# Altium footprint library Passive.PcbLib: 30 footprints (part 1 of 2)
Each footprint in its own frame and in the unit in brackets; x right, y up, seen from the top. Pads: shape width x height; smd on the part's side, far side on the other; paste and mask are expansions set on the pad; w line width, h text height; cw(c..) or ccw(c..) is an arc to the next point about the centre after c.
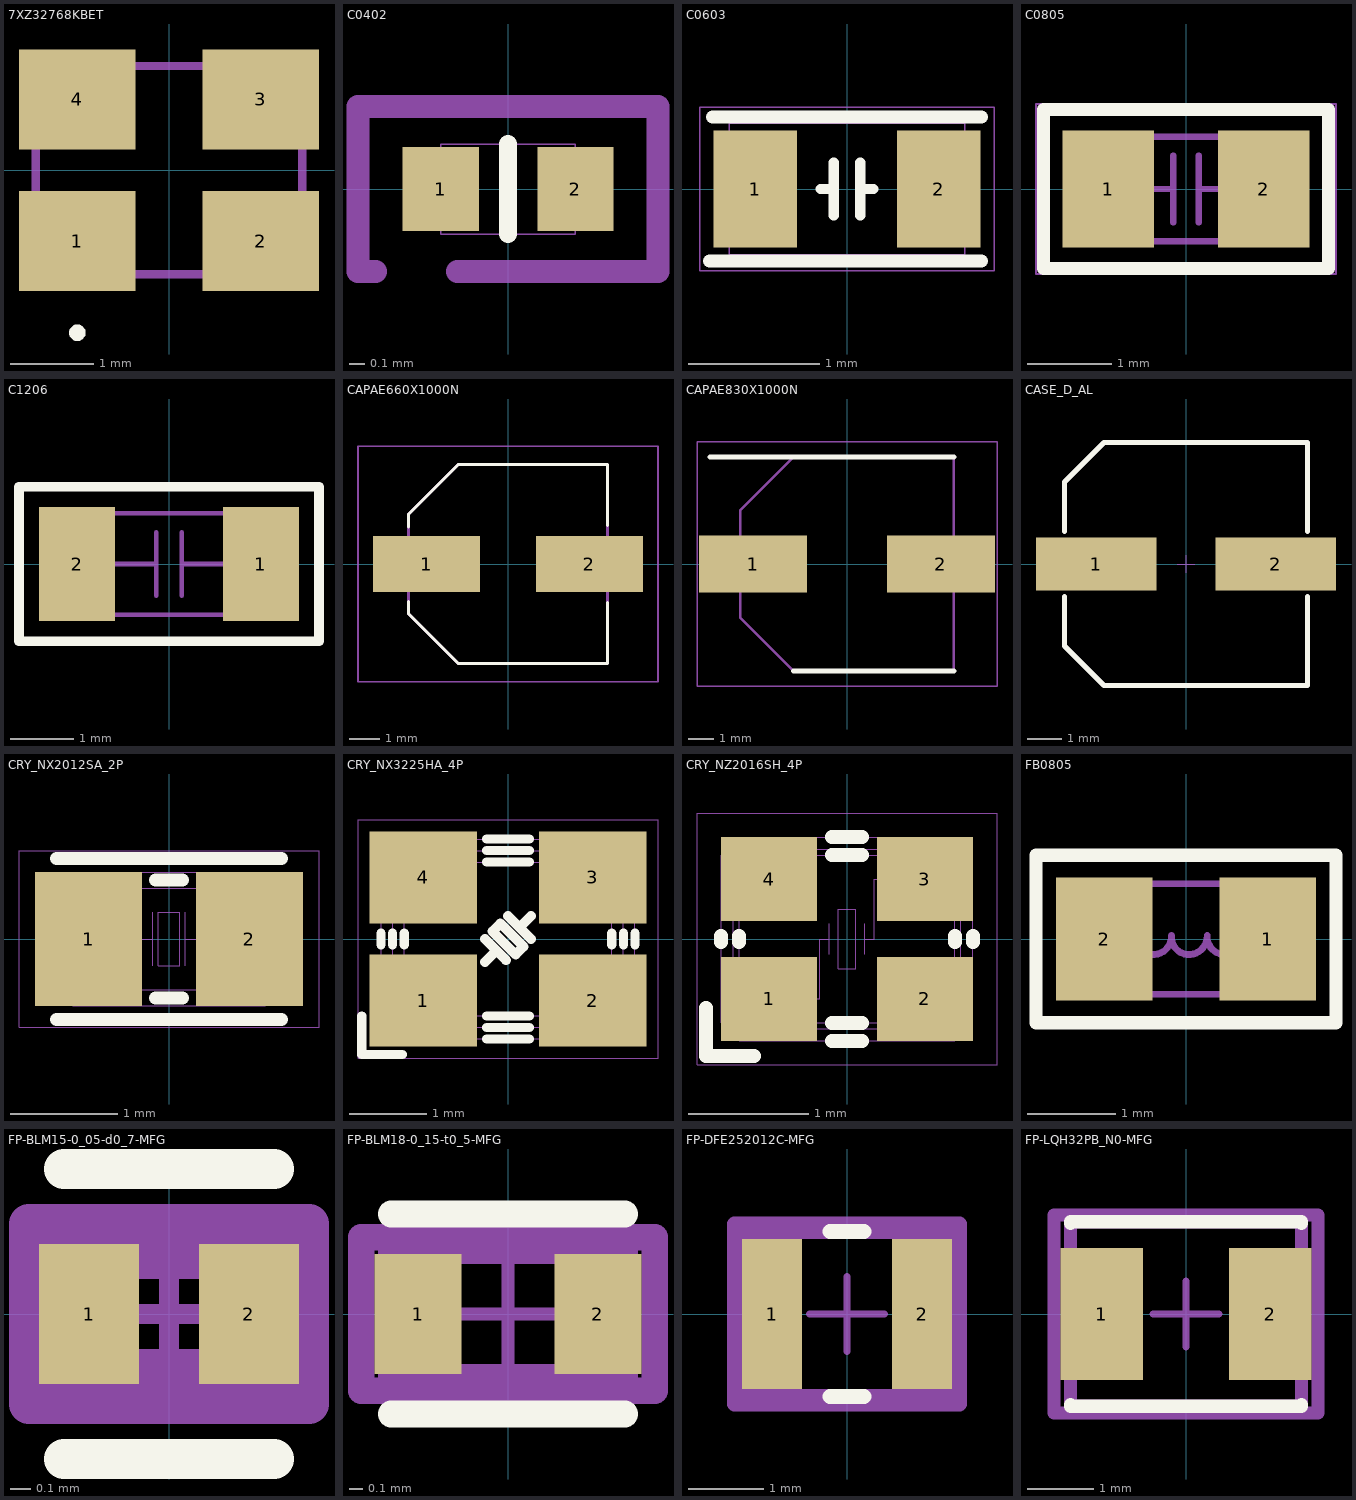
[diagram p0: the footprints below, top view; thin cyan lines are the x and y axes]

## 7XZ32768KBET [mm]
pads (4):
  rect 1.4x1.2 smd: 1(-1.1,-0.85) 2(1.1,-0.85) 3(1.1,0.85) 4(-1.1,0.85)
Top Overlay:
  lines w0.1: -1.1,-2 cw(c-1.1,-1.95) -1.1,-1.9 cw(c-1.1,-1.95) -1.1,-2
Mechanical 13:
  lines w0.1: -1.6,-1.25 -1.6,1.25 1.6,1.25 1.6,-1.25 -1.6,-1.25
3D body "7XZ-32.768KBE-T.stp": height 1.2, standoff 0, extent -1.68,-1.33 1.68,1.33

## C0402 [mm]
pads (2):
  rect 0.51x0.56 smd mask+0.05: 1(-0.45,0) 2(0.45,0)
Top Overlay:
  lines w0.12: 0,-0.3 0,0.3
  text ".Designator" at 3.247,-0.722 h0.64
Mechanical 14:
  lines w0.01: -0.45,-0.3 -0.45,0.3 0.45,0.3 0.45,-0.3 -0.45,-0.3
Mechanical 32:
  text "1" at -0.216,0 h0.64
  text "2" at 0.724,0 h0.64
Mechanical 33:
  lines w0.152: -0.882,-0.55 -1,-0.55 -1,0.55 1,0.55 1,-0.55 -0.337,-0.55
  text "C633" at 3.247,-0.722 h0.64
3D body: height 0.4, standoff 0, extent -0.455,-0.305 0.455,0.305
3D body "C0402.STEP": height 0.36, standoff 0, extent -0.5,-0.265 0.5,0.265

## C0603 [mm]
pads (2):
  rect 0.64x0.89 smd mask+0.05: 1(-0.7,0) 2(0.7,0)
Top Overlay:
  lines w0.08: -0.2,0 -0.1,0 ; -0.1,-0.2 -0.1,0.2 ; 0.1,-0.2 0.1,0.2 ; 0.1,0 0.2,0
  lines w0.1: -1.05,-0.55 1.025,-0.55 ; -1.025,0.55 1.025,0.55
Mechanical 14:
  lines w0.01: -0.9,-0.5 -0.9,0.5 0.9,0.5 0.9,-0.5 -0.9,-0.5
  text "'.Designator'" at 0.5,-2 h0.75
Mechanical 16:
  lines w0.01: -1.125,-0.625 1.125,-0.625 1.125,0.625 -1.125,0.625 -1.125,-0.625
3D body "C0603.STEP": height 0.5, standoff 0, extent -0.8,-0.4 0.8,0.4
3D body: height 1.4, standoff 0, extent -0.899,-0.499 0.899,0.499

## C0805 [mil]
pads (2):
  rect 43x55 smd: 1(-36.5,0) 2(36.5,0)
Top Overlay:
  lines w6: -66.93,-37.4 66.93,-37.4 66.93,37.4 -11.81,37.4 -66.93,37.4 -66.93,-37.4
  text ".Designator" at -31.44,-75.5 h25
Top Courtyard:
  lines w1: -39.37,-24.61 39.37,-24.61 39.37,24.61 -39.37,24.61 -39.37,-24.61
Top 3D Body:
  lines w1: -70.5,-40 70.5,-40 70.5,40 -70.5,40 -70.5,-40
Mechanical 32:
  text "1" at -46.5,0 h25
  text "2" at 26.5,0 h25
Mechanical 33:
  lines w6: -66.93,-37.4 66.93,-37.4 66.93,37.4 -11.81,37.4 -66.93,37.4 -66.93,-37.4
  text "C40" at 73.5,-7.17 h25
Top Assembly:
  lines w3: -33.46,0 -5.91,0 ; -5.91,-15.75 -5.91,0 ; -5.91,15.75 -5.91,0 ; 5.91,-15.75 5.91,0 ; 5.91,15.75 5.91,0 ; 33.46,0 5.91,0 ; -39.37,-24.61 39.37,-24.61 39.37,24.61 -39.37,24.61 -39.37,-24.61
3D body "0805CAP.step": height 30.79, standoff 0, extent -39.21,-24.48 39.53,24.73

## C1206 [mil]
pads (2):
  rect 47x71 smd: 1(57.09,0) 2(-57.09,0)
Top Overlay:
  lines w6: -93.09,-47.95 -93.09,47.95 93.09,47.95 93.09,-47.95 -93.09,-47.95
Mechanical 32:
  text "2" at -67.09,0 h25
  text "1" at 47.09,0 h25
Top Assembly:
  lines w3: -51.18,0 -7.87,0 ; -7.87,-19.69 -7.87,0 ; -7.87,19.69 -7.87,0 ; 7.87,-19.69 7.87,0 ; 7.87,19.69 7.87,0 ; 51.18,0 7.87,0 ; -62.99,-31.5 62.99,-31.5 62.99,31.5 -62.99,31.5 -62.99,-31.5
Mechanical 255:
  text ".Designator" at -136.5,32.5 h25
3D body "1206CAP.step": height 39.45, standoff 0, extent -63.18,-31.43 62.8,31.57

## CAPAE660X1000N [mm]
pads (2):
  rect 3.55x1.85 smd: 1(-2.7,0) 2(2.7,0)
Top Overlay:
  lines w0.1: -3.3,-1.245 -3.3,-1.65 -1.65,-3.3 3.3,-3.3 3.302,-1.27 ; -3.3,1.219 -3.3,1.65 -1.65,3.3 3.3,3.3 ; 3.301,1.271 3.303,3.301
Mechanical 13:
  lines w0.1: -3.3,-1.65 -1.65,-3.3 3.3,-3.3 3.3,3.3 -1.65,3.3 -3.3,1.65 -3.3,-1.65
Mechanical 15:
  lines w0.05: -4.975,-3.9 -4.975,3.9 4.975,3.9 4.975,-3.9 -4.975,-3.9
3D body "A780EN476M1HLAS050.step": height 9.8, standoff -0.2, extent -3.75,-3.404 3.75,3.396

## CAPAE830X1000N [mm]
pads (2):
  rect 4.2x2.2 smd: 1(-3.65,0) 2(3.65,0)
Top Overlay:
  lines w0.2: -5.325,4.15 4.15,4.15 ; -2.075,-4.15 4.15,-4.15
Mechanical 13:
  lines w0.1: -4.15,-2.075 -4.15,2.075 -2.075,4.15 4.15,4.15 4.15,-4.15 -2.075,-4.15 -4.15,-2.075
Mechanical 15:
  lines w0.05: -5.825,-4.75 5.825,-4.75 5.825,4.75 -5.825,4.75 -5.825,2.375 -5.825,-2.375 -5.825,-4.75
3D body "A785KN227M1ELAS029.stp": height 10, standoff 0, extent -4.6,-4.25 4.6,4.25

## CASE_D_AL [mil] "CASE_D_AL"
pads (2):
  rect 140x62 smd: 1(-104,0) 2(104,0)
Top Overlay:
  lines w6: -141,-38 -141,-95 -95,-141 141,-141 141,-38 ; -141,38 -141,95 -95,141 141,141 141,38
  text ".Designator" at -185,-42 h35
Top Component Center:
  lines w1: -10,0 10,0 ; 0,-10 0,10
3D body "CAP_EEFK_D_PAN.step": height 242.09, standoff 0, extent -153.5,-134.02 153.5,134.02

## CRY_NX2012SA_2P [mm]
pads (2):
  rect 1x1.25 smd mask+0.05: 1(-0.75,0) 2(0.75,0)
Top Overlay:
  lines w0.12: -1.05,-0.75 1.05,-0.75 ; -1.05,0.75 1.05,0.75 ; -0.125,-0.55 0.125,-0.55 ; -0.125,0.55 0.125,0.55
Mechanical 14:
  lines w0.01: -0.5,0 -0.15,0 ; -0.15,-0.25 -0.15,0.25 ; 0.15,-0.25 0.15,0.25 ; 0.15,0 0.5,0 ; -1.05,-0.475 cw(c-1.05,-0.625) -0.9,-0.625 0.9,-0.625 cw(c1.05,-0.625) 1.05,-0.475 1.05,0.475 cw(c1.05,0.625) 0.9,0.625 -0.9,0.625 cw(c-1.05,0.625) -1.05,0.475 -1.05,-0.475 ; -0.9,-0.325 ccw(c-0.75,-0.325) -0.75,-0.475 0.75,-0.475 ccw(c0.75,-0.325) 0.9,-0.325 0.9,0.325 ccw(c0.75,0.325) 0.75,0.475 -0.75,0.475 ccw(c-0.75,0.325) -0.9,0.325 -0.9,-0.325 ; -0.1,-0.25 -0.1,0.25 0.1,0.25 0.1,-0.25 -0.1,-0.25
  text "'.Designator'" at -2,-0.5 h0.75
Mechanical 16:
  lines w0.01: -1.4,-0.825 -1.4,0.825 1.4,0.825 1.4,-0.825 -1.4,-0.825
3D body: height 0.6, standoff 0.5, extent -0.85,-0.425 0.85,0.425
3D body: height 0.5, standoff 0.3, extent -0.9,-0.475 0.9,0.475
3D body: height 0.3, standoff 0, extent -1.05,-0.625 1.05,0.625

## CRY_NX3225HA_4P [mm]
pads (4):
  rect 1.4x1.2 smd mask+0.05: 1(-1.1,-0.8) 2(1.1,-0.8) 3(1.1,0.8) 4(-1.1,0.8)
Top Overlay:
  lines w0.12: -1.9,-1 -1.9,-1.5 -1.375,-1.5 ; -1.65,-0.075 -1.65,0.075 ; -1.5,-0.075 -1.5,0.075 ; -1.35,-0.075 -1.35,0.075 ; -0.275,-1.3 0.275,-1.3 ; -0.275,-1.15 0.275,-1.15 ; -0.275,-1 0.275,-1 ; -0.275,1 0.275,1 ; -0.275,1.15 0.275,1.15 ; -0.275,1.3 0.275,1.3 ; 1.35,-0.075 1.35,0.075 ; 1.5,-0.075 1.5,0.075 ; 1.65,-0.075 1.65,0.075
  lines w0.127: -0.3,-0.3 -0.15,-0.15 ; -0.3,0 -0.15,-0.15 ; -0.025,-0.275 -0.15,-0.15 ; 0,0.3 0.3,0 ; 0.175,0.175 0.3,0.3 ; -0.2,0.1 0.1,-0.2 0.2,-0.1 -0.1,0.2 -0.2,0.1
Mechanical 14:
  lines w0.01: -1.65,-0.8 -1.5,-0.8 ; -1.65,0.8 -1.5,0.8 ; -1.5,-1.3 1.5,-1.3 cw(c1.675,-1.325) 1.65,-1.15 1.65,1.15 ; -1.5,-1.3 ccw(c-1.675,-1.325) -1.65,-1.15 -1.65,1.15 ccw(c-1.675,1.325) -1.5,1.3 1.5,1.3 ; -1.3,1.15 1.3,1.15 cw(c1.325,0.975) 1.5,0.95 1.5,-0.95 cw(c1.325,-0.975) 1.3,-1.15 ; -1.3,1.15 ccw(c-1.325,0.975) -1.5,0.95 -1.5,-0.95 ccw(c-1.325,-0.975) -1.3,-1.15 1.3,-1.15 ; -1.15,-1.3 -1.15,-1.15 ; -1.15,1 1.15,1 cw(c1.175,0.825) 1.35,0.8 1.35,-0.8 cw(c1.175,-0.825) 1.15,-1 ; -1.15,1.15 -1.15,1.3 ; -1.15,1 ccw(c-1.175,0.825) -1.35,0.8 -1.35,-0.8 ccw(c-1.175,-0.825) -1.15,-1 1.15,-1 ; -0.3,-0.3 -0.125,-0.125 ; -0.28,0.03 0.021,-0.271 ; -0.015,0.27 0.286,-0.031 ; 0.125,0.125 0.3,0.3 ; 1.15,-1.3 1.15,-1.15 ; 1.15,1.15 1.15,1.3 ; 1.5,-0.8 1.65,-0.8 ; 1.5,0.8 1.65,0.8 ; 1.5,1.3 ccw(c1.675,1.325) 1.65,1.15 ; -1.175,-0.875 -1.175,-0.625 -0.925,-0.625 -0.925,-0.875 -1.175,-0.875 ; -0.224,0.077 -0.076,0.226 0.225,-0.075 0.077,-0.223 -0.224,0.077
Mechanical 16:
  lines w0.01: -1.95,-1.55 -1.95,1.55 1.95,1.55 1.95,-1.55 -1.95,-1.55
Mechanical 255:
  text "'.Designator'" at 2,0.5 h0.75
3D body: height 0.8, standoff 0, extent -1.655,-1.305 1.655,1.305
3D body "XTAL-3_2x2_5.STEP": height 0.91, standoff -0.01, extent -1.6,-1.25 1.6,1.25

## CRY_NZ2016SH_4P [mm]
pads (4):
  rect 0.8x0.7 smd mask+0.05: 1(-0.65,-0.5) 2(0.65,-0.5) 3(0.65,0.5) 4(-0.65,0.5)
Top Overlay:
  lines w0.12: -1.175,-0.575 -1.175,-0.975 -0.775,-0.975 ; -1.05,-0.025 -1.05,0.025 ; -0.9,-0.025 -0.9,0.025 ; -0.125,-0.85 0.125,-0.85 ; -0.125,-0.7 0.125,-0.7 ; -0.125,0.7 0.125,0.7 ; -0.125,0.85 0.125,0.85 ; 0.9,-0.025 0.9,0.025 ; 1.05,-0.025 1.05,0.025
Mechanical 14:
  lines w0.01: -0.9,-0.25 -0.35,-0.25 -0.35,-0.7 ; -0.9,0.25 -0.35,0.25 -0.35,0.7 ; -0.325,-0.5 -0.225,-0.5 -0.225,0 -0.15,0 ; -0.15,-0.125 -0.15,0.125 ; 0.15,-0.125 0.15,0.125 ; 0.15,0 0.225,0 0.225,0.5 0.325,0.5 ; 0.35,-0.7 0.35,-0.25 0.9,-0.25 ; 0.35,0.7 0.35,0.25 0.9,0.25 ; -1.05,-0.7 cw(c-1.05,-0.85) -0.9,-0.85 0.9,-0.85 cw(c1.05,-0.85) 1.05,-0.7 1.05,0.7 cw(c1.05,0.85) 0.9,0.85 -0.9,0.85 cw(c-1.05,0.85) -1.05,0.7 -1.05,-0.7 ; -0.95,-0.6 ccw(c-0.8,-0.6) -0.8,-0.75 0.8,-0.75 ccw(c0.8,-0.6) 0.95,-0.6 0.95,0.6 ccw(c0.8,0.6) 0.8,0.75 -0.8,0.75 ccw(c-0.8,0.6) -0.95,0.6 -0.95,-0.6 ; -0.9,-0.6 ccw(c-0.8,-0.6) -0.8,-0.7 0.8,-0.7 ccw(c0.8,-0.6) 0.9,-0.6 0.9,0.6 ccw(c0.8,0.6) 0.8,0.7 -0.8,0.7 ccw(c-0.8,0.6) -0.9,0.6 -0.9,-0.6 ; -0.075,-0.25 -0.075,0.25 0.075,0.25 0.075,-0.25 -0.075,-0.25
  text "1" at -0.725,-0.65 h0.5
  text "2" at 0.525,-0.65 h0.5
  text "3" at 0.525,0.325 h0.5
  text "4" at -0.75,0.325 h0.5
Mechanical 16:
  lines w0.01: -1.25,-1.05 1.25,-1.05 1.25,1.05 -1.25,1.05 -1.25,-1.05
Mechanical 255:
  text "'.Designator'" at -2,-0.5 h0.75
3D body "NX2016.STEP": height 0.7, standoff 0, extent -1,-0.8 1,0.8
3D body: height 0.71, standoff 0.7, extent -0.9,-0.7 -0.575,-0.375
3D body: height 0.7, standoff 0, extent -1.05,-0.85 1.05,0.85

## FB0805 [mil]
pads (2):
  rect 43x55 smd: 1(36.5,0) 2(-36.5,0)
Top Overlay:
  lines w6: -66.93,-37.4 -66.93,37.4 66.93,37.4 66.93,-37.4 11.81,-37.4 -66.93,-37.4
Mechanical 32:
  text "2" at -46.5,0 h25
  text "1" at 26.5,0 h25
Top Assembly:
  lines w3: -34.83,1.52 -22.43,1.52 ccw(c-14.56,0.94) -8.25,-3.8 ccw(c-15.34,1.52) -6.48,1.52 ccw(c1.39,0.94) 7.7,-3.8 ccw(c0.6,1.52) 9.46,1.52 ccw(c17.33,0.94) 23.64,-3.8 ccw(c16.55,1.52) 25.41,1.52 36.04,1.52 ; -39.37,-24.61 39.37,-24.61 39.37,24.61 -39.37,24.61 -39.37,-24.61
  text ".Designator" at 69,-47 h30
3D body "R0805.step": height 18.66, standoff 0, extent -40.05,-25.2 38.69,24.09

## FP-BLM15-0_05-d0_7-MFG [mm]
pads (2):
  rect 0.5x0.7 smd paste-1000 mask-1000: 1(-0.4,0) 2(0.4,0)
Top Overlay:
  lines w0.2: -0.525,-0.725 0.525,-0.725 ; -0.525,0.725 0.525,0.725
Top Paste:
  rectangle: 0.2,-0.25 0.6,0.25
  rectangle: -0.6,-0.25 -0.2,0.25
Top Solder:
  rectangle: 0.2,-0.25 0.6,0.25
  rectangle: -0.6,-0.25 -0.2,0.25
Top Component Center:
  lines w0.1: -0.5,0 0.5,0 ; 0,-0.5 0,0.5
Top Courtyard:
  lines w0.2: -0.7,-0.45 -0.7,0.45 0.7,0.45 0.7,-0.45 -0.7,-0.45
Top 3D Body:
  lines w0.2: -0.525,-0.275 -0.525,0.275 0.525,0.275 0.525,-0.275 -0.525,-0.275
Top Assembly:
  lines w0.2: -0.7,-0.45 -0.7,0.45 0.7,0.45 0.7,-0.45 -0.7,-0.45
  text ".Designator" at 0,-0.001 h1
3D body "FBead_Murata_BLM15PD600SN1J_eec.STEP": height 0.25, standoff 0, extent -0.7,-0.45 0.7,0.45

## FP-BLM18-0_15-t0_5-MFG [mm]
pads (2):
  rect 0.65x0.9 smd paste+0 mask+0: 1(-0.675,0) 2(0.675,0)
Top Overlay:
  lines w0.2: -0.875,-0.75 0.875,-0.75 ; -0.875,0.75 0.875,0.75
Top Component Center:
  lines w0.1: -0.5,0 0.5,0 ; 0,-0.5 0,0.5
Top Courtyard:
  lines w0.2: -1.1,-0.575 1.1,-0.575 1.1,0.575 -1.1,0.575 -1.1,-0.575
Top 3D Body:
  lines w0.2: -0.875,-0.475 0.875,-0.475 0.875,0.475 -0.875,0.475 -0.875,-0.475
Top Assembly:
  lines w0.2: -1.1,-0.575 1.1,-0.575 1.1,0.575 -1.1,0.575 -1.1,-0.575
  text ".Designator" at 0,0.188 h1
3D body "FBead_Murata_BLM18EG331TN1D_eec.STEP": height 0.25, standoff 0, extent -1.1,-0.575 1.1,0.575

## FP-DFE252012C-MFG [mm]
pads (2):
  rect 0.8x2 smd paste+0 mask+0: 1(-1,0) 2(1,0)
Top Overlay:
  lines w0.2: -0.225,-1.1 0.225,-1.1 ; -0.225,1.1 0.225,1.1
Top Component Center:
  lines w0.1: -0.5,0 0.5,0 ; 0,-0.5 0,0.5
Top Courtyard:
  lines w0.2: -1.5,-1.2 -1.5,1.2 1.5,1.2 1.5,-1.2 -1.5,-1.2
Top 3D Body:
  lines w0.2: -1.35,-1.1 -1.35,1.1 1.35,1.1 1.35,-1.1 -1.35,-1.1
Top Assembly:
  lines w0.2: -1.5,-1.2 -1.5,1.2 1.5,1.2 1.5,-1.2 -1.5,-1.2
  text ".Designator" at 0,0.188 h1
3D body "Ind_Murata_DFE252012F-4R7M=P2_eec.STEP": height 0.25, standoff 0, extent -1.5,-1.2 1.5,1.2

## FP-LQH32PB_N0-MFG [mm]
pads (2):
  rect 1.25x2 smd paste+0 mask+0: 1(-1.275,0) 2(1.275,0)
Top Overlay:
  lines w0.2: -1.75,-1.375 -1.75,-1.4 1.75,-1.4 1.75,-1.375 ; -1.75,1.375 -1.75,1.4 1.75,1.4 1.75,1.375
Top Component Center:
  lines w0.1: -0.5,0 0.5,0 ; 0,-0.5 0,0.5
Top Courtyard:
  lines w0.2: -2,-1.5 -2,1.5 2,1.5 2,-1.5 -2,-1.5
Top 3D Body:
  lines w0.2: -1.75,-1.4 -1.75,1.4 1.75,1.4 1.75,-1.4 -1.75,-1.4
Top Assembly:
  lines w0.2: -2,-1.5 -2,1.5 2,1.5 2,-1.5 -2,-1.5
  text ".Designator" at 0,0.188 h1
3D body "Ind_Murata_LQH32PB100MN0B_eec.STEP": height 0.25, standoff 0, extent -2,-1.5 2,1.5